# Altium schematic symbol library Inductors.SCHLIB: 7 symbols
Pins are listed as number, name and electrical type; pins without a type are passive.

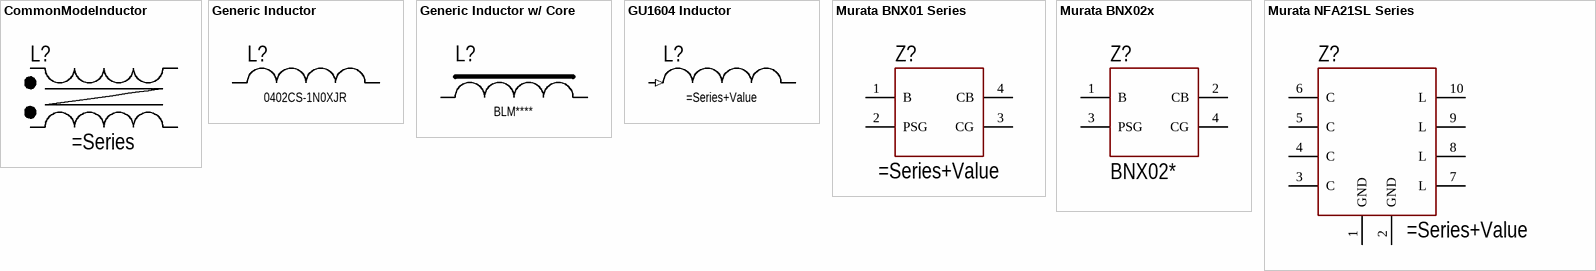
[diagram p0: symbols CommonModeInductor to Murata NFA21SL Series]

## CommonModeInductor
designator L?
Common Mode Inductor Schematic Symbol
pins: 1, 2, 3, 4

## Generic Inductor
designator L?, comment Display: 0402CS-1N0XJR  (hidden comment: 0402CS-1N0XJR 1 нГн±5%)
Generic 2- Lead Inductor; Tolerance: ±5%; Value_Spec: 1 нГн; Value: 1N0; Index: XJR; Series: 0402CS
pins: 1, 2

## Generic Inductor w/ Core
designator L?, comment BLM****
Murata BLM-Based Chip Ferrite Bead; Misc: *; Value: *; Index: *; Package: *; Series: BLM
pins: 1, 2

## GU1604 Inductor
designator L?
Mini-Circuits GL1604 RF Choke
pins: 1 RF-IN (in), 2 hidden, 3 DC, 4 hidden

## Murata BNX01 Series
designator Z?
Murata BNX01 EMI/RFI Filter
footprint BNX01x Series
pins: 1 B, 2 PSG, 3 CG, 4 CB

## Murata BNX02x
designator Z?, comment BNX02*
Murata BNX EMI/RFI Filter; Part: BNX02; Code: *
pins: 1 B (power), 2 CB (power), 3 PSG (power), 4 CG (power)

## Murata NFA21SL Series
designator Z?
Murata NFA21SL Series EMI/RF Filter
pins: 1 GND, 2 GND, 3 C, 4 C, 5 C, 6 C, 7 L, 8 L, 9 L, 10 L